# EAGLE library part JTAG_SERIAL (library Z)
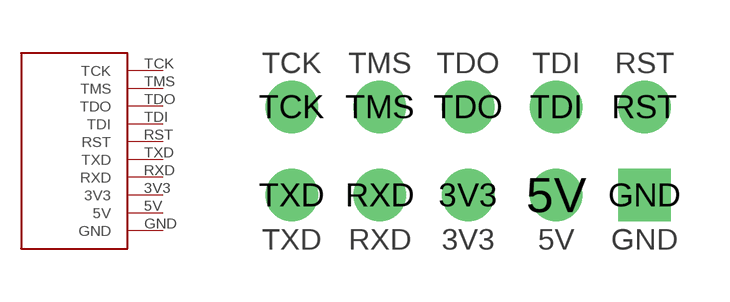
[diagram p10: symbol with the pads of JTAG_SERIAL_PTH; footprint JTAG_SERIAL_PTH]

Designator prefix -

## JTAG_SERIAL  [JTAG_SERIAL_PTH]
3V3  3V3
5V  5V
GND  GND
RST  RST
RXD  RXD
TCK  TCK
TDI  TDI
TDO  TDO
TMS  TMS
TXD  TXD

## Footprint JTAG_SERIAL_PTH (pad centres in mm)
PIN HEADER
drill 1: 3V3 0,-1.27; 5V 2.54,-1.27; RST 5.08,1.27; RXD -2.54,-1.27; TCK -5.08,1.27; TDI 2.54,1.27; TDO 0,1.27; TMS -2.54,1.27; TXD -5.08,-1.27
drill 1 square: GND 5.08,-1.27